# Altium footprint library PCB1_corrosao.PcbLib: 25 footprints (part 2 of 2)
Each footprint in its own frame and in the unit in brackets; x right, y up, seen from the top. Pads: shape width x height; smd on the part's side, far side on the other; paste and mask are expansions set on the pad; w line width, h text height; cw(c..) or ccw(c..) is an arc to the next point about the centre after c.
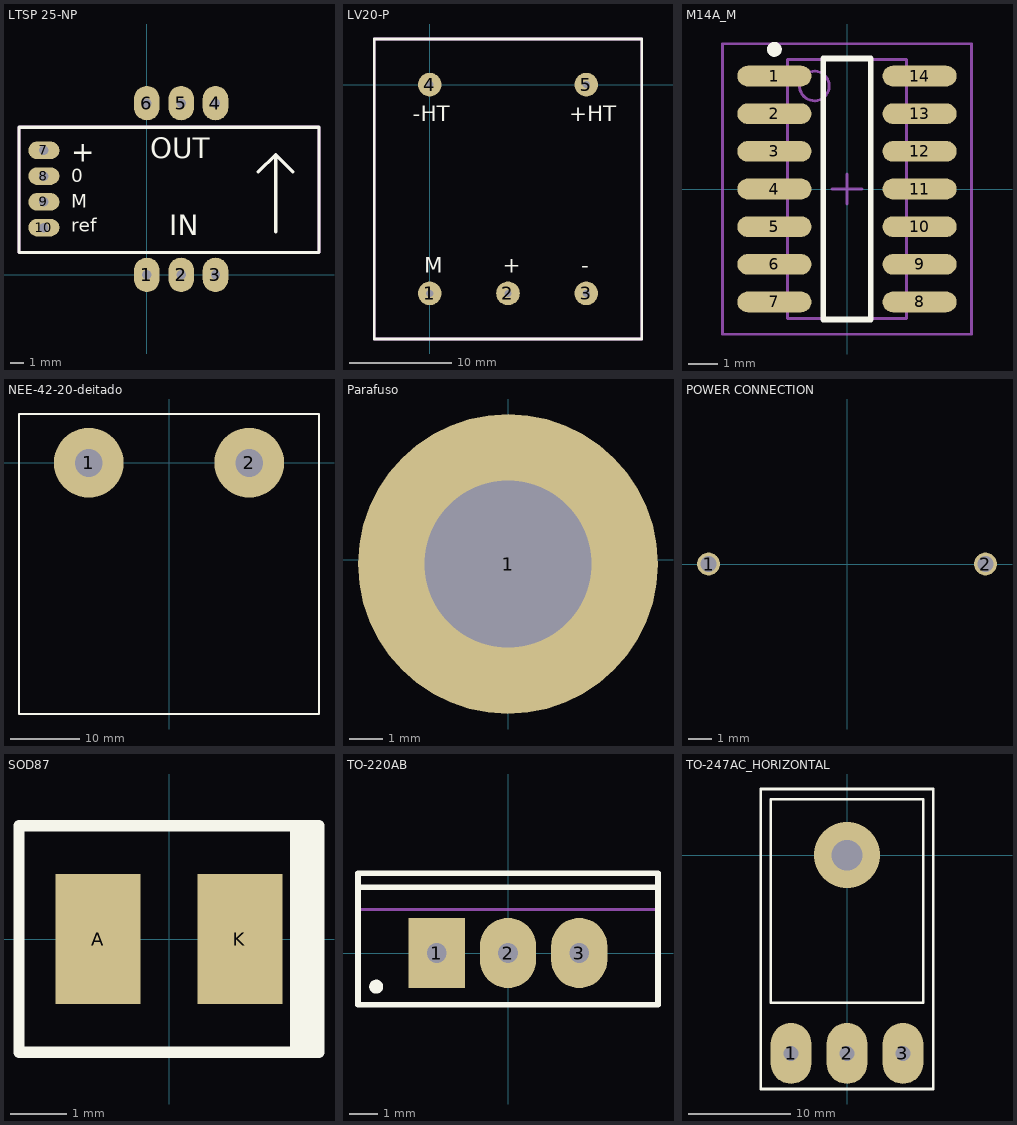
[diagram p1: the footprints below, top view; thin cyan lines are the x and y axes]

## LTSP 25-NP [mm] "Current Transducer (25 A)"
height 24
pads (10):
  oval 1.9x2.54 hole 0.7: 1(0,0) 2(2.54,0) 3(5.08,0) 4(5.08,12.7) 5(2.54,12.7) 6(0,12.7)
  oval 2.3x1.3 hole 0.7: 7(-7.62,9.21) 8(-7.62,7.305) 9(-7.62,5.4) 10(-7.62,3.495)
Top Overlay:
  lines w0.254: 8.255,7.62 9.525,8.89 ; 9.525,3.175 9.525,8.89 ; 10.795,7.62 9.525,8.89 ; -9.46,1.651 12.74,1.651 12.74,10.922 -9.46,10.922 -9.46,1.651
  text "ref" at -5.588,3.175 h1
  text "M" at -5.588,4.953 h1
  text "0" at -5.588,6.858 h1
  text "+" at -5.588,8.382 h1.52
  text "OUT" at 0.254,8.636 h1.52
  text "IN" at 1.651,2.921 h1.52
Mechanical 1:
  lines w0.254: -9.46,1.651 -9.46,10.922 12.74,10.922 12.74,1.651 -9.46,1.651

## LV20-P [mm] "Voltage Transducer LV 20-P"
height 15.1
pads (5):
  round 2.3 hole 0.7 unplated: 1(0,-20.32) 2(7.62,-20.32) 3(15.24,-20.32) 4(0,0) 5(15.24,0)
Top Overlay:
  lines w0.254: -5.38,-24.76 -5.38,4.44 20.62,4.44 20.62,-24.76 -5.38,-24.76
  text "M" at -0.508,-18.288 h1.52
  text "-" at 14.732,-18.288 h1.52
  text "+" at 7.112,-18.288 h1.52
  text "+HT" at 13.589,-3.556 h1.52
  text "-HT" at -1.651,-3.556 h1.52
Mechanical 1:
  lines w0.254: -5.38,-24.76 20.62,-24.76 20.62,4.44 -5.38,4.44 -5.38,-24.76

## M14A_M [mm] "SOIC, 14-Leads, Body 8.6x3.9mm, Pitch 1.27mm, IPC Low Density"
height 1.75
pads (14):
  oval 2.5x0.7 smd: 1(-2.45,3.81) 2(-2.45,2.54) 3(-2.45,1.27) 4(-2.45,0) 5(-2.45,-1.27) 6(-2.45,-2.54) 7(-2.45,-3.81) 8(2.45,-3.81) 9(2.45,-2.54) 10(2.45,-1.27) 11(2.45,0) 12(2.45,1.27) 13(2.45,2.54) 14(2.45,3.81)
Top Overlay:
  circle w0.25: c-2.45,4.71 r0.125
  lines w0.2: -0.8,-4.4 -0.8,4.4 0.8,4.4 0.8,-4.4 -0.8,-4.4
Mechanical 13:
  circle w0.1: c-1.1,3.475 r0.5
  lines w0.1: -2,-4.375 -2,4.375 2,4.375 2,-4.375 -2,-4.375
Mechanical 15:
  lines w0.1: -0.5,0 0.5,0 ; 0,-0.5 0,0.5 ; -4.2,-4.9 -4.2,4.9 4.2,4.9 4.2,-4.9 -4.2,-4.9
3D body: height 1.75, standoff 0, extent -2,-4.375 2,4.375

## NEE-42-20-deitado [mm]
pads (2):
  round 10 hole 4: 1(-11.5,0) 2(11.5,0)
Top Overlay:
  lines w0.254: -21.5,-36 21.5,-36 21.5,7 -21.5,7 -21.5,-36

## Parafuso [mm]
pads (1):
  round 9 hole 5: 1(0,-0.127)

## POWER CONNECTION [mm]
pads (2):
  round 1 hole 0.7 square: 1(-6,0) 2(6,0)

## SOD87 [mm]
height 2.1
pads (2):
  rect 1.5x2.3 smd: A(-1.253,0) K(1.253,0)
Top Overlay:
  rectangle: 2.134,-2.007 2.616,2.007
  lines w0.2: -2.65,-2 2.65,-2 2.65,2 -2.65,2 -2.65,0 -2.65,-2

## TO-220AB [mm] "TO, Thru-Hole, Vertical, Heatsink Mounted; 3 In-Line Leads; Pitch 2.54 mm"
height 19.3
pads (3):
  rect 2x2.5 hole 0.7: 1(-2.54,0)
  oval 2x2.5 hole 0.7: 2(0,0) 3(2.54,0)
Top Overlay:
  circle w0.25: c-4.7,-1.2 r0.125
  lines w0.2: -5.35,2.35 5.35,2.35 ; -5.35,-1.85 -5.35,2.85 5.35,2.85 5.35,-1.85 -5.35,-1.85
Mechanical 13:
  lines w0.1: -5.35,1.55 5.35,1.55 ; -5.35,-1.85 5.35,-1.85 5.35,2.85 -5.35,2.85 -5.35,-1.85
Mechanical 15:
  lines w0.1: -0.5,0 0.5,0 ; 0,-0.5 0,0.5
3D body: height 12.9, standoff 4, extent -5.4,-1.9 5.4,2.9
3D body: height 19.3, standoff 12.9, extent -5.349,1.551 5.349,2.849

## TO-247AC_HORIZONTAL [mm]
height 5
pads (3):
  oval 4x6 hole 1.5: 1(-5.5,-19.5) 2(0,-19.5) 3(5.5,-19.5)
via 0,0 diameter 6.5 hole 3
Top Overlay:
  lines w0.254: -8.5,-23 8.5,-23 8.5,6.5 -8.5,6.5 -8.5,-23 ; -7.5,-14.5 7.5,-14.5 7.5,5.5 -7.5,5.5 -7.5,-14.5
3D body "User Library-TO-247H.step": height 5, standoff -6.9, extent -7.75,-19.8 7.75,5.6